# Altium footprint library SOD3715X145SHOT.PcbLib: 1 footprints
Each footprint in its own frame and in the unit in brackets; x right, y up, seen from the top. Pads: shape width x height; smd on the part's side, far side on the other; paste and mask are expansions set on the pad; w line width, h text height; cw(c..) or ccw(c..) is an arc to the next point about the centre after c.
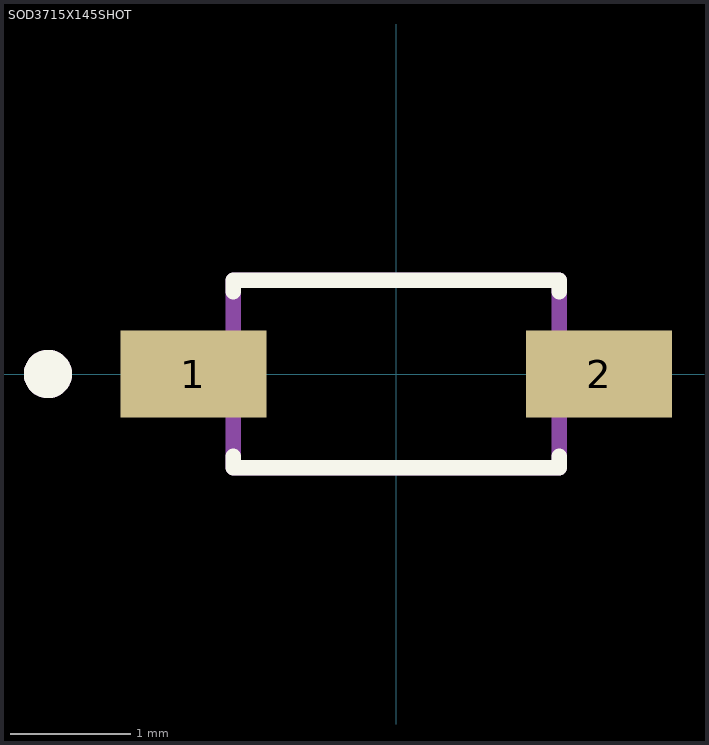
[diagram p0: the footprint, top view; thin cyan lines are the x and y axes]

## SOD3715X145SHOT [mm]
pads (2):
  rect 1.21x0.72 smd: 1(-1.68,0) 2(1.68,0)
Top Overlay:
  circle w0.2: c-2.885,0 r0.1
  lines w0.127: -1.35,-0.68 -1.35,-0.775 1.35,-0.775 1.35,-0.68 ; -1.35,0.68 -1.35,0.775 1.35,0.775 1.35,0.68
Assembly Top:
  circle w0.2: c-2.885,0 r0.1
  lines w0.127: -1.35,-0.775 1.35,-0.775 1.35,0.775 -1.35,0.775 -1.35,-0.775